# Altium integrated library ADP1612ARMZ-R7.IntLib: 1 symbol
Pins are listed as number, name and electrical type; pins without a type are passive.

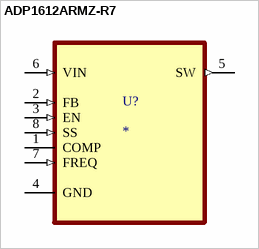
[diagram p0: symbol ADP1612ARMZ-R7]

## ADP1612ARMZ-R7
designator U?
Boost, SEPIC Switching Regulator IC Positive 1 Output 1.4A (Switch) 8-TSSOP, 8-MSOP (0.118, 3.00mm Width); MF: Analog Devices; MP: ADP1612ARMZ-R7; Price: None; Value: *; Availability: Good; Check_prices: https://www.snapeda.com/parts/ADP1612ARMZ-R7/Analog%20Devices%20Inc./view-part/42012/?ref=eda; SnapEDA_Link: https://www.snapeda.com/parts/ADP1612ARMZ-R7/Analog%20Devices%20Inc./view-part/42012/?ref=snap; Purchase-URL: https://pricing.snapeda.com/search/part/ADP1612ARMZ-R7/?ref=eda; Package: MSOP-8 Analog Devices
footprint SOIC-08
pins: 1 COMP, 2 FB (in), 3 EN (in), 4 GND, 5 SW (out), 6 VIN (in), 7 FREQ (in), 8 SS (in)